# EAGLE library part MCP609 (library common)
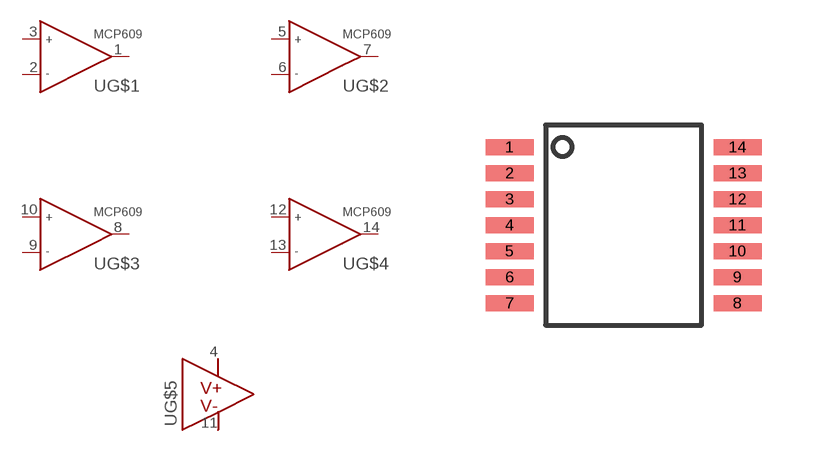
[diagram p15: symbol with the pads of TSSOP-14; footprint TSSOP-14]

Designator prefix -; gates G$1=OPAMPA G$2=OPAMPA G$3=OPAMPA G$4=OPAMPA G$5=OPAMP_PWR

## MCP609  [TSSOP-14]
1  G$1:OUTA
2  G$1:INA-
3  G$1:INA+
4  G$5:V+  pwr
5  G$2:INA+
6  G$2:INA-
7  G$2:OUTA
8  G$3:OUTA
9  G$3:INA-
10  G$3:INA+
11  G$5:V-  pwr
12  G$4:INA+
13  G$4:INA-
14  G$4:OUTA

## Footprint TSSOP-14 (pad centres in mm)
smd 1.2 x 0.4: 1 -2.85,1.95; 2 -2.85,1.3; 3 -2.85,0.65; 4 -2.85,0; 5 -2.85,-0.65; 6 -2.85,-1.3; 7 -2.85,-1.95; 8 2.85,-1.95; 9 2.85,-1.3; 10 2.85,-0.65; 11 2.85,0; 12 2.85,0.65; 13 2.85,1.3; 14 2.85,1.95